# Altium footprint library czc.PcbLib: 157 footprints (part 9 of 10)
Each footprint in its own frame and in the unit in brackets; x right, y up, seen from the top. Pads: shape width x height; smd on the part's side, far side on the other; paste and mask are expansions set on the pad; w line width, h text height; cw(c..) or ccw(c..) is an arc to the next point about the centre after c.
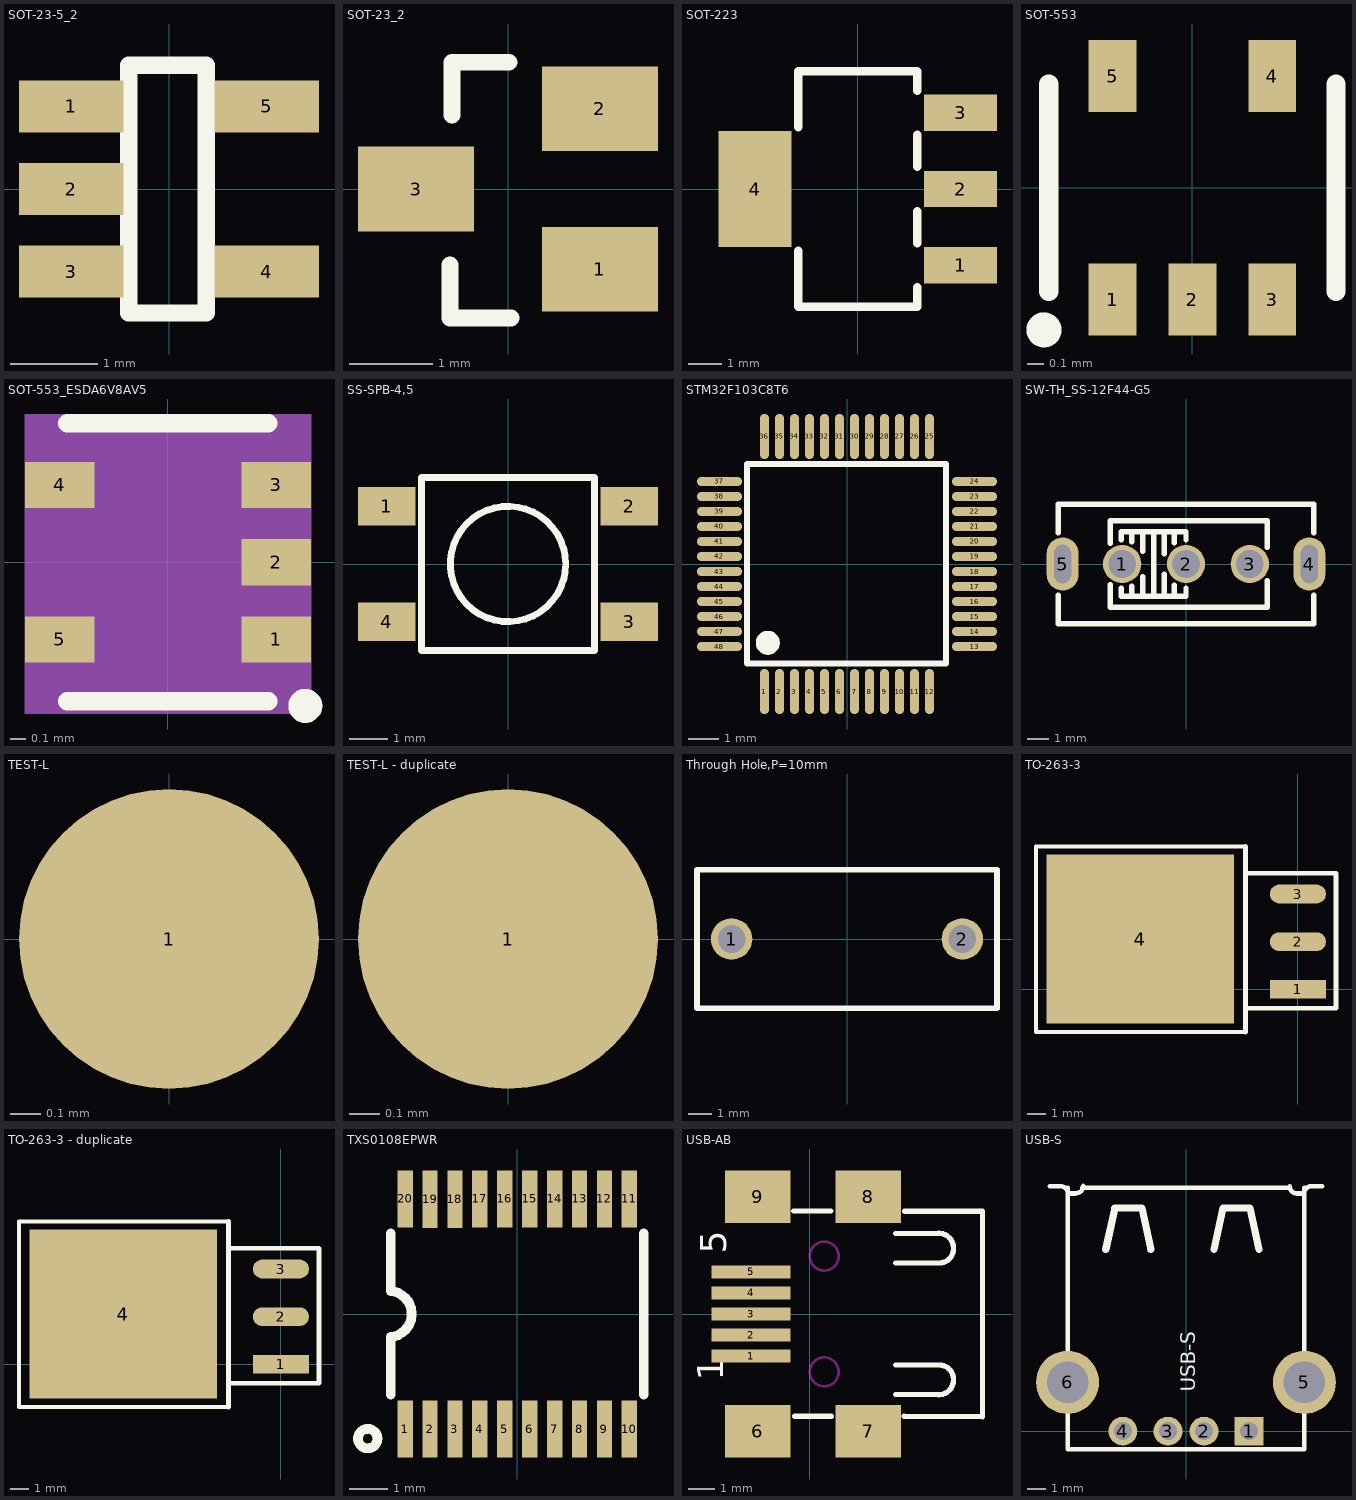
[diagram p8: the footprints below, top view; thin cyan lines are the x and y axes]

## SOT-23-5_2 [mm]
pads (5):
  rect 1.2x0.6 smd: 1(-1.125,0.95) 2(-1.125,0) 3(-1.125,-0.95) 4(1.125,-0.95) 5(1.125,0.95)
Top Overlay:
  lines w0.2: -0.461,-1.426 0.427,-1.426 0.427,1.424 -0.461,1.424 -0.461,-1.426

## SOT-23_2 [mil]
pads (3):
  rect 55x40 smd: 1(43.5,-38) 2(43.5,38) 3(-43.5,0)
Top Overlay:
  lines w8: -27.5,-36 -27.5,-61 1.5,-61 ; -26.5,35 -26.5,59 ; -26.5,60 0.5,60

## SOT-223 [mm]
pads (4):
  rect 2.2x1.1 smd: 1(3.099,-2.3) 2(3.099,0) 3(3.099,2.3)
  rect 2.2x3.5 smd: 4(-3.099,0)
Top Overlay:
  lines w0.254: -1.8,-1.865 -1.8,-3.55 1.8,-3.55 1.8,-2.965 ; -1.8,1.865 -1.8,3.55 1.8,3.55 1.8,2.965 ; 1.8,-1.635 1.8,-0.665 ; 1.8,0.665 1.8,1.635

## SOT-553 [mm]
pads (5):
  rect 0.3x0.45 smd: 1(-0.5,-0.7) 2(0,-0.7) 3(0.5,-0.7) 4(0.5,0.7) 5(-0.5,0.7)
Top Overlay:
  circle w0.12: c-0.93,-0.89 r0.05
  lines w0.12: -0.9,-0.65 -0.9,0.65 ; 0.9,-0.65 0.9,0.65

## SOT-553_ESDA6V8AV5 [mm]
pads (5):
  rect 0.45x0.3 smd: 1(0.7,-0.5) 2(0.7,0) 3(0.7,0.5) 4(-0.7,0.5) 5(-0.7,-0.5)
Top Overlay:
  circle w0.12: c0.89,-0.93 r0.05
  lines w0.12: -0.65,-0.9 0.65,-0.9 ; -0.65,0.9 0.65,0.9
Mechanical 4:
  region: -0.926,0.96 0.929,0.96 0.929,-0.983 -0.926,-0.983
Mechanical 5:
  region: 0.475,-0.35 0.925,-0.35 0.925,-0.65 0.475,-0.65
  region: 0.475,0.65 0.925,0.65 0.925,0.35 0.475,0.35
  region: -0.925,-0.35 -0.475,-0.35 -0.475,-0.65 -0.925,-0.65
  region: 0.475,0.15 0.925,0.15 0.925,-0.15 0.475,-0.15
  region: -0.925,0.65 -0.475,0.65 -0.475,0.35 -0.925,0.35

## SS-SPB-4,5 [mm]
pads (4):
  rect 1.5x1 smd: 1(-3.15,1.5) 2(3.15,1.5) 3(3.15,-1.5) 4(-3.15,-1.5)
Top Overlay:
  circle w0.178: c0,0 r1.5
  lines w0.178: -2.25,-2.25 2.25,-2.25 2.25,2.25 -2.25,2.25 -2.25,-2.25

## STM32F103C8T6 [mm] "STM32F103C8T6"
pads (48):
  oval 0.3x1.5 smd: 1(-2.75,-4.25) 2(-2.25,-4.25) 3(-1.75,-4.25) 4(-1.25,-4.25) 5(-0.75,-4.25) 6(-0.25,-4.25) 7(0.25,-4.25) 8(0.75,-4.25) 9(1.25,-4.25) 10(1.75,-4.25) 11(2.25,-4.25) 12(2.75,-4.25) 25(2.75,4.25) 26(2.25,4.25) 27(1.75,4.25) 28(1.25,4.25) 29(0.75,4.25) 30(0.25,4.25) 31(-0.25,4.25) 32(-0.75,4.25) 33(-1.25,4.25) 34(-1.75,4.25) 35(-2.25,4.25) 36(-2.75,4.25)
  oval 1.5x0.3 smd: 13(4.25,-2.75) 14(4.25,-2.25) 15(4.25,-1.75) 16(4.25,-1.25) 17(4.25,-0.75) 18(4.25,-0.25) 19(4.25,0.25) 20(4.25,0.75) 21(4.25,1.25) 22(4.25,1.75) 23(4.25,2.25) 24(4.25,2.75) 37(-4.25,2.75) 38(-4.25,2.25) 39(-4.25,1.75) 40(-4.25,1.25) 41(-4.25,0.75) 42(-4.25,0.25) 43(-4.25,-0.25) 44(-4.25,-0.75) 45(-4.25,-1.25) 46(-4.25,-1.75) 47(-4.25,-2.25) 48(-4.25,-2.75)
Top Overlay:
  lines w0.2: -2.896,3.34 3.302,3.34 3.302,-3.315 -3.327,-3.315 -3.327,3.34 -2.565,3.34
  lines w0.4: -2.642,-2.426 ccw(c-2.64,-2.626) -2.639,-2.426

## SW-TH_SS-12F44-G5 [mm]
pads (5):
  round 1.8 hole 1.3: 1(-3,0) 2(0,0) 3(3,0)
  oval 1.5x2.499 hole 0.8 slot 1.8 at 90 deg: 4(5.8,0) 5(-5.8,0)
Top Overlay:
  lines w0.254: -6,-1.46 -6,-2.8 6,-2.8 6,-1.46 ; -6,1.46 -6,2.8 6,2.8 6,1.46 ; -3.556,-0.985 -3.556,-2.032 3.81,-2.032 3.81,-0.788 ; -3.556,0.985 -3.556,2.032 3.81,2.032 3.81,0.788 ; -3.048,-1.13 -3.048,-1.524 0,-1.524 0,-1.131 ; -3.048,1.13 -3.048,1.524 0,1.524 0,1.131 ; -2.549,-1.524 -2.549,-1.037 ; -2.549,1.037 -2.549,1.524 ; -2.041,-1.524 -2.041,-0.598 ; -2.041,0.598 -2.041,1.524 ; -1.524,-1.524 -1.524,1.524 ; -1.025,-1.524 -1.025,-0.474 ; -1.025,0.474 -1.025,1.524 ; -0.543,-1.524 -0.543,-0.992 ; -0.543,0.992 -0.543,1.524

## TEST-L [mm]
pads (1):
  round 1 smd: 1(0,0)

## TEST-L - duplicate [mm]
pads (1):
  round 1 smd: 1(0,0)

## Through Hole,P=10mm [mm]
pads (2):
  round 1.8 hole 1.2: 1(-5,0) 2(5,0)
Top Overlay:
  lines w0.254: -6.5,-3 6.5,-3 6.5,3 -6.5,3 -6.5,-3

## TO-263-3 [mm]
pads (4):
  rect 3x1 smd: 1(0,0)
  oval 3x1 smd: 2(0,2.54) 3(0,5.08)
  rect 10x9 smd: 4(-8.4,2.68)
Top Overlay:
  lines w0.203: -2.794,-2.286 -13.97,-2.286 -13.97,7.62 -2.794,7.62
  lines w0.254: -2.794,-2.286 -2.794,7.62 ; -2.794,-1.016 2.032,-1.016 2.032,6.096 ; -2.794,6.192 2.032,6.192
3D body "User Library-TO-263-3.step": height 4.6, standoff 0, extent -14.027,-2.54 1.073,7.76

## TO-263-3 - duplicate [mm]
pads (4):
  rect 3x1 smd: 1(0,0)
  oval 3x1 smd: 2(0,2.54) 3(0,5.08)
  rect 10x9 smd: 4(-8.4,2.68)
Top Overlay:
  lines w0.203: -2.794,-2.286 -13.97,-2.286 -13.97,7.62 -2.794,7.62
  lines w0.254: -2.794,-2.286 -2.794,7.62 ; -2.794,-1.016 2.032,-1.016 2.032,6.096 ; -2.794,6.192 2.032,6.192
3D body "User Library-TO-263-3.step": height 4.6, standoff 0, extent -14.027,-2.54 1.073,7.76

## TXS0108EPWR [mm]
pads (20):
  rect 0.4x1.494 smd: 1(-2.925,-3.001) 2(-2.275,-3.001) 3(-1.625,-3.001) 4(-0.975,-3.001) 5(-0.325,-3.001) 6(0.324,-3.001) 7(0.975,-3.001) 8(1.625,-3.001) 9(2.275,-3.001) 10(2.925,-3.001) 11(2.925,3.001) 12(2.275,3.001) 13(1.625,3.001) 14(0.975,3.001) 15(0.325,3.001) 16(-0.325,3.001) 17(-0.975,3.001) 18(-1.625,2.996) 19(-2.275,2.996) 20(-2.925,3.001)
Top Overlay:
  circle w0.254: c-3.9,-3.25 r0.254
  lines w0.254: -3.3,-2.105 -3.3,-2.105 -3.3,-0.6 ccw(c-3.357,0) -3.3,0.6 -3.3,2.105 ; 3.3,2.105 3.3,-2.105 3.3,-2.105

## USB-AB [mm]
pads (9):
  rect 3x0.5 smd: 1(-2.225,-1.6) 2(-2.225,-0.8) 3(-2.225,0) 4(-2.225,0.8) 5(-2.225,1.6)
  rect 2.5x2 smd: 6(-1.975,-4.45) 7(2.225,-4.45) 8(2.225,4.45) 9(-1.975,4.45)
Top Overlay:
  lines w0.2: -0.599,3.912 0.798,3.912 ; -0.574,-3.886 0.823,-3.886 ; 3.265,-3.06 4.935,-3.06 ; 3.265,-1.94 4.935,-1.94 ; 3.265,1.94 4.935,1.94 ; 3.265,3.06 4.935,3.06 ; 3.592,-3.886 6.565,-3.9 6.565,3.9 3.617,3.9 ; 4.865,-1.94 4.935,-1.94 ; 4.865,1.94 4.935,1.94 ; 4.905,-3.07 ccw(c4.905,-2.51) 5.465,-2.51 5.465,-2.47 ccw(c4.935,-2.47) 4.935,-1.94 ; 4.905,3.07 cw(c4.905,2.51) 5.465,2.51 5.465,2.47 cw(c4.935,2.47) 4.935,1.94 ; 4.915,-3.06 5.065,-3.06 ; 4.915,3.06 5.065,3.06
  text "5" at -3.165,2.29 h1
  text "1" at -3.285,-2.53 h1
Keep-Out Layer:
  circle w0.1: c0.555,-2.2 r0.55
  circle w0.1: c0.555,2.2 r0.55
3D body "651305142821.stp": height 1.95, standoff -2.15, extent -3.431,-4.823 5.969,5.077

## USB-S [mm]
pads (6):
  rect 1.6x1.6 hole 1: 1(3.5,0)
  round 1.6 hole 1: 2(1,0) 3(-1,0) 4(-3.5,0)
  round 3.5 hole 2.3: 5(6.57,2.71) 6(-6.57,2.71)
Top Overlay:
  lines w0.254: -7.55,13.585 -6.95,13.585 cw(c-6.95,13.185) -6.55,13.185 -6.15,13.185 ; -6.55,-1 -6.55,13.5 ; -6.5,-1 6.5,-1 ; -6.1,13.2 ccw(c-6.1,13.6) -5.7,13.6 ; -5.75,13.5 5.75,13.5 ; 5.75,13.585 ccw(c6.15,13.585) 6.15,13.185 6.55,13.185 cw(c6.95,13.185) 6.95,13.585 ; 6.55,-1 6.55,13.5 ; 6.85,13.585 7.55,13.585
  lines w0.4: -4.45,10.085 -3.95,12.385 -2.45,12.385 -1.95,10.085 ; 1.55,10.085 2.05,12.385 3.55,12.385 4.05,10.085
  text "USB-S" at 0.5,2.2 h0.8
3D body "USB-A-S-F-B-TH.step": height 6.35, standoff -4.57, extent -7.773,-0.892 8.027,13.208